# Altium schematic symbol library LC Network.Schlib: 1 symbol
Pins are listed as number, name and electrical type; pins without a type are passive.

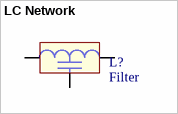
[diagram p0: symbol LC Network]

## LC Network
designator L?, comment Filter
pins: 1, 2, 3